# Altium footprint library AIWAC_A33_LVDS07_20181114..PcbLib: 16 footprints
Each footprint in its own frame and in the unit in brackets; x right, y up, seen from the top. Pads: shape width x height; smd on the part's side, far side on the other; paste and mask are expansions set on the pad; w line width, h text height; cw(c..) or ccw(c..) is an arc to the next point about the centre after c.
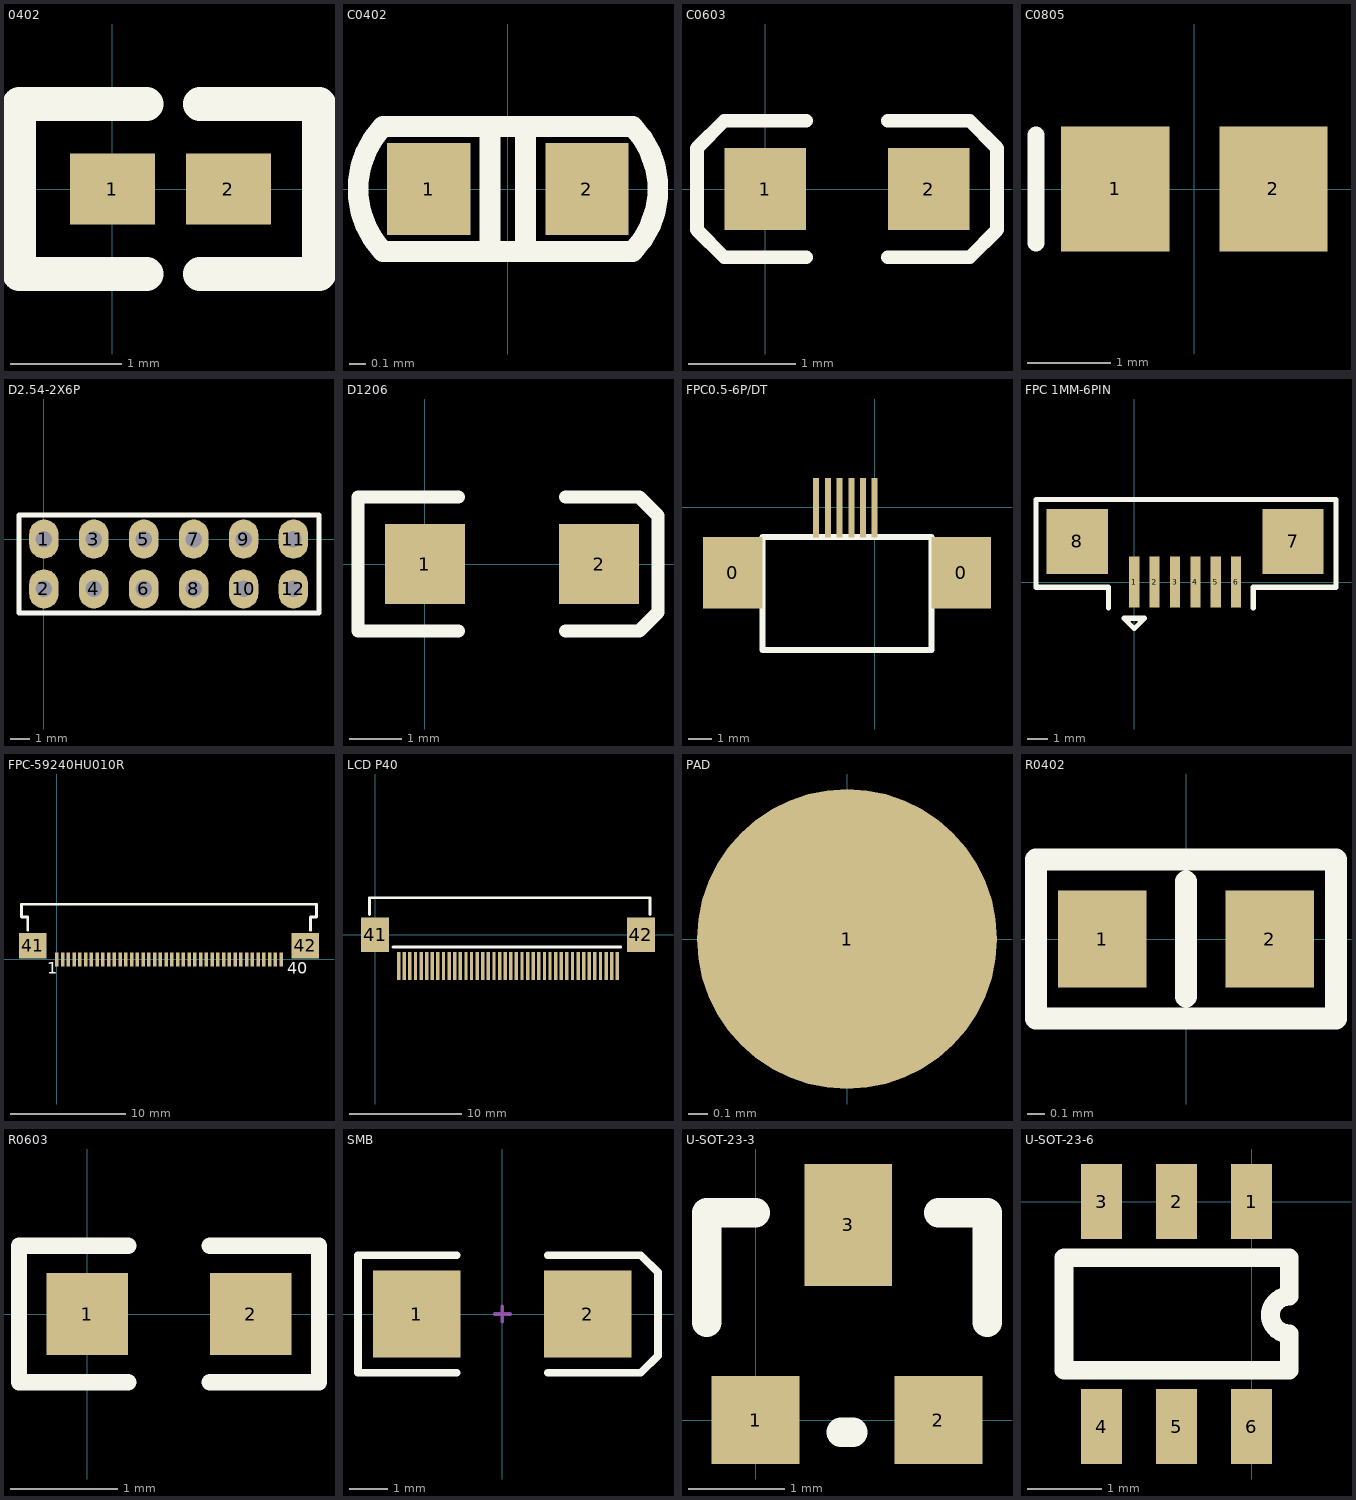
[diagram p0: the footprints below, top view; thin cyan lines are the x and y axes]

## 0402 [mil]
pads (2):
  rect 30x25 smd: 1(0,0) 2(41,0)
Top Overlay:
  lines w12: 12,-30 -33,-30 -33,30 12,30 ; 31,-30 73,-30 73,30 31,30

## C0402 [mil]
pads (2):
  rect 20x22 smd: 1(-19,0) 2(19,0)
Top Overlay:
  lines w5: -4.25,-13 -4.25,13 ; 4.25,-13 4.25,13 ; -30,-15 cw(c-14.19,0) -30,15 30,15 cw(c14.47,0) 30,-15 -30,-15

## C0603 [mil]
height 12
pads (2):
  rect 30x30 smd: 1(0,0) 2(60,0)
Top Overlay:
  lines w5: 15,-25 -15,-25 -25,-15 -25,15 -15,25 15,25 ; 45,-25 75,-25 85,-15 85,15 75,25 45,25
3D body "C0603.STEP": height 11.89, standoff 0, extent -1.5,-15.5 61.5,16

## C0805 [mm] "Chip Capacitor; Body 2.0 x 1.2 mm (LxW typ)"
height 1.1
pads (2):
  rect 1.3x1.5 smd: 1(-0.95,0) 2(0.95,0)
Top Overlay:
  lines w0.2: -1.9,-0.65 -1.9,0.65

## D2.54-2X6P [mm] "DUAL_ROW_Pin_R2.54-6P"
pads (12):
  oval 1.5x2 hole 0.838: 1(0,0) 2(0,-2.54) 3(2.54,0) 4(2.54,-2.54) 5(5.08,0) 6(5.08,-2.54) 7(7.62,0) 8(7.62,-2.54) 9(10.16,0) 10(10.16,-2.54) 11(12.7,0) 12(12.7,-2.54)
Top Overlay:
  lines w0.254: -1.27,-3.77 -1.27,1.23 14,1.23 14,-3.77 -1.27,-3.77
3D body: height 2.54, standoff 0, extent -1.27,-3.85 14,1.23
3D body: height 10, standoff -4, extent 7.222,-2.939 8.019,-2.141
3D body: height 10, standoff -4, extent 4.682,-2.939 5.479,-2.141
3D body: height 10, standoff -4, extent 2.142,-2.939 2.939,-2.141
3D body: height 10, standoff -4, extent -0.398,-2.939 0.399,-2.141
3D body: height 10, standoff -4, extent 7.222,-0.399 8.019,0.399
3D body: height 10, standoff -4, extent 4.682,-0.399 5.479,0.399
3D body: height 10, standoff -4, extent 2.142,-0.399 2.939,0.399
3D body: height 10, standoff -4, extent -0.398,-0.399 0.399,0.399
3D body: height 10, standoff -4, extent 9.762,-2.939 10.559,-2.141
3D body: height 10, standoff -4, extent 9.762,-0.399 10.559,0.399
3D body: height 10, standoff -4, extent 12.362,-0.399 13.159,0.399
3D body: height 10, standoff -4, extent 12.362,-2.939 13.159,-2.141

## D1206 [mil]
pads (2):
  rect 60x60 smd: 1(0,0) 2(130,0)
Top Overlay:
  lines w10: 25,-50 -50,-50 -50,50 25,50 ; 105,-50 145,-50 160,-50 174.02,-35.98 174.02,35.98 160,50 105,50
3D body: height 3.94, standoff 0, extent 117.5,-23 150.5,23
3D body: height 3.94, standoff 0, extent -22,-23 11,23
3D body: height 47.24, standoff 3.94, extent -7,-40 105,40
3D body: height 47.24, standoff 3.94, extent 105,-40 123,40
3D body: height 47.24, standoff 3.94, extent 123,-40 134,40

## FPC0.5-6P/DT [mil]
pads (8):
  rect 100x120 smd: 0(-238.67,-109.79) 0(145.19,-109.79)
  rect 10x100 smd: 1(-0.19,-0.21) 2(-19.87,-0.21) 3(-39.56,-0.21) 4(-59.24,-0.21) 5(-78.93,-0.21) 6(-98.61,-0.21)
Top Overlay:
  lines w10: -188.67,-239.79 -188.67,-49.79 95.19,-49.79 95.19,-239.79 -188.67,-239.79

## FPC 1MM-6PIN [mm]
pads (8):
  rect 0.5x2.5 smd: 1(0,0) 2(1,0) 3(2,0) 4(3,0) 5(4,0) 6(5,0)
  rect 3x3.2 smd: 7(7.8,2) 8(-2.8,2)
Top Overlay:
  lines w0.254: -1.27,-1.27 -1.27,-0.254 -4.826,-0.254 -4.826,4.064 9.906,4.064 9.906,-0.254 5.842,-0.254 5.842,-1.27 ; -0.508,-1.778 0.508,-1.778 0,-2.286 -0.508,-1.778

## FPC-59240HU010R [mm]
pads (42):
  rect 0.3x1.2 smd: 1(0,0) 2(0.5,0) 3(1,0) 4(1.5,0) 5(2,0) 6(2.5,0) 7(3,0) 8(3.5,0) 9(4,0) 10(4.5,0) 11(5,0) 12(5.5,0) 13(6,0) 14(6.5,0) 15(7,0) 16(7.5,0) 17(8,0) 18(8.5,0) 19(9,0) 20(9.5,0) 21(10,0) 22(10.5,0) 23(11,0) 24(11.5,0) 25(12,0) 26(12.5,0) 27(13,0) 28(13.5,0) 29(14,0) 30(14.5,0) 31(15,0) 32(15.5,0) 33(16,0) 34(16.5,0) 35(17,0) 36(17.5,0) 37(18,0) 38(18.5,0) 39(19,0) 40(19.5,0)
  rect 2.4x2.2 smd: 41(-2.1,1.2) 42(21.6,1.2)
Top Overlay:
  lines w0.254: -2.54,2.54 -2.54,3.7 -3.1,3.7 -3.1,4.8 22.6,4.8 22.6,3.7 22.047,3.7 22.047,2.54
  text "40" at 20.041,-1.245 h1.02
  text "1" at -0.864,-1.245 h1.02
3D body: height 1, standoff 0, extent -3.1,0.889 22.606,4.8

## LCD P40 [mm] "0.5MM 下接"
height 0.305
pads (42):
  rect 0.3x2.54 smd: 1(21.6,-2.783) 2(21.1,-2.783) 3(20.6,-2.783) 4(20.1,-2.783) 5(19.6,-2.783) 6(19.1,-2.783) 7(18.6,-2.783) 8(18.1,-2.783) 9(17.6,-2.783) 10(17.1,-2.783) 11(16.6,-2.783) 12(16.1,-2.783) 13(15.6,-2.783) 14(15.1,-2.783) 15(14.6,-2.783) 16(14.1,-2.783) 17(13.6,-2.783) 18(13.1,-2.783) 19(12.6,-2.783) 20(12.1,-2.783) 21(11.6,-2.783) 22(11.1,-2.783) 23(10.6,-2.783) 24(10.1,-2.783) 25(9.6,-2.783) 26(9.1,-2.783) 27(8.6,-2.783) 28(8.1,-2.783) 29(7.6,-2.783) 30(7.1,-2.783) 31(6.6,-2.783) 32(6.1,-2.783) 33(5.6,-2.783) 34(5.1,-2.783) 35(4.6,-2.783) 36(4.1,-2.783) 37(3.6,-2.783) 38(3.1,-2.783) 39(2.6,-2.783) 40(2.1,-2.783)
  rect 2.5x3.048 smd: 41(0,0) 42(23.7,0)
Top Overlay:
  lines w0.254: -0.5,1.817 -0.5,3.302 24.5,3.302 24.5,1.817 ; 1.6,-1.1 21.9,-1.1

## PAD [mil]
pads (1):
  round 60 smd mask+15: 1(0,0)

## R0402 [mil]
pads (2):
  rect 20x22 smd: 1(-19,0) 2(19,0)
Top Overlay:
  lines w5: 0,-13 0,13 ; -34,-18 -34,18 34,18 34,-18 -34,-18

## R0603 [mil]
height 12
pads (2):
  rect 30x30 smd: 1(0,0) 2(60,0)
Top Overlay:
  lines w6: 15,-25 -25,-25 -25,25 15,25 ; 45,-25 85,-25 85,25 45,25
3D body "R0603.STEP": height 17.72, standoff 0, extent -0.5,-16 62.5,15.5

## SMB [mm] "DO-214-AA/SMB; 2 C-Bend Leads; Body 5.3 x 3.6 mm, inc. leads (LxW)"
height 2.54
pads (2):
  rect 2.3x2.3 smd: 1(-2.25,0) 2(2.25,0)
Top Overlay:
  lines w0.2: -1.2,-1.55 -3.8,-1.55 -3.8,1.55 -1.2,1.55 ; 1.2,-1.55 3.65,-1.55 4.1,-1.1 4.1,1.1 3.65,1.55 1.2,1.55
Mechanical 1:
  lines w0.1: -0.2,0 0.2,0 ; 0,-0.2 0,0.2

## U-SOT-23-3 [mil]
pads (3):
  rect 36x36 smd: 1(0,0) 2(75,0)
  rect 36x50 smd: 3(38,80)
Top Overlay:
  lines w12: -20,40 -20,85 0,85 ; 35,-5 40,-5 ; 75,85 95,85 95,40
3D body: height 50, standoff 3, extent -20.5,12.5 94.5,67.5
3D body: height 10, standoff 0, extent 20.5,65 54.5,90
3D body: height 10, standoff 0, extent -17.5,-10 16.5,15
3D body: height 10, standoff 0, extent 57.5,-10 91.5,15

## U-SOT-23-6 [mil]
pads (6):
  rect 22x40 smd: 1(0,0) 2(-40,0) 3(-80,0) 4(-80,-120) 5(-40,-120) 6(0,-120)
Top Overlay:
  lines w10: 20,-73 20,-90 -100,-90 -100,-30 20,-30 20,-50.56 ccw(c20,-60.56) 20,-70.56
3D body: height 10, standoff 0, extent -89.5,-32 -70.5,10
3D body: height 59.06, standoff 3.94, extent -101,-89 19,-29
3D body: height 10, standoff 0, extent -49.5,-32 -30.5,10
3D body: height 10, standoff 0, extent -9.5,-32 9.5,10
3D body: height 10, standoff 0, extent -89.5,-127 -70.5,-85
3D body: height 10, standoff 0, extent -9.5,-127 9.5,-85
3D body: height 10, standoff 0, extent -49.5,-127 -30.5,-85